# EAGLE library part 623334235321 (library Board_to_Board_Connectors_rev15d)
WR-PHD 1.27mm Dual SMT Socket Header H=2.20mm, Bottom Entry, 34 Pins=>Code : Con_BTB_SHD_1.27_2_623334235321 <http://katalog.we-online.de/media/thumbs2/eican/thb_Con_BTB_SHD_1.27_2_6233xx235321_pf2.jpg> Details see: http://katalog.we-online.de/en/em/623_3xx_235_321 Created 2014-06-04, Karrer Zheng 2014 (C) Würth Elektronik
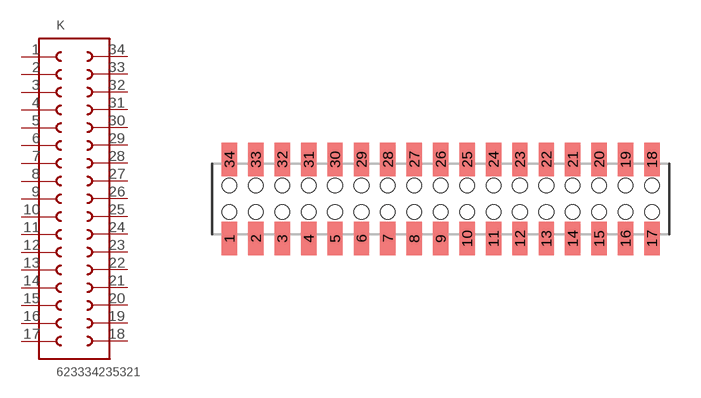
[diagram p318: symbol with the pads of 623334235321; footprint 623334235321]

Designator prefix K

## 623334235321  [623334235321]
1  1  pas
2  2  pas
3  3  pas
4  4  pas
5  5  pas
6  6  pas
7  7  pas
8  8  pas
9  9  pas
10  10  pas
11  11  pas
12  12  pas
13  13  pas
14  14  pas
15  15  pas
16  16  pas
17  17  pas
18  18  pas
19  19  pas
20  20  pas
21  21  pas
22  22  pas
23  23  pas
24  24  pas
25  25  pas
26  26  pas
27  27  pas
28  28  pas
29  29  pas
30  30  pas
31  31  pas
32  32  pas
33  33  pas
34  34  pas

## Footprint 623334235321 (pad centres in mm)
WR-PHD 1.27mm Dual SMT Socket Header H=2.20mm, Bottom Entry, 34 Pins
smd 0.74 x 1.6: 1 -10.16,-1.9; 2 -8.89,-1.9; 3 -7.62,-1.9; 4 -6.35,-1.9; 5 -5.08,-1.9; 6 -3.81,-1.9; 7 -2.54,-1.9; 8 -1.27,-1.9; 9 0,-1.9; 10 1.27,-1.9; 11 2.54,-1.9; 12 3.81,-1.9; 13 5.08,-1.9; 14 6.35,-1.9; 15 7.62,-1.9; 16 8.89,-1.9; 17 10.16,-1.9; 18 10.16,1.9; 19 8.89,1.9; 20 7.62,1.9; 21 6.35,1.9; 22 5.08,1.9; 23 3.81,1.9; 24 2.54,1.9; 25 1.27,1.9; 26 0,1.9; 27 -1.27,1.9; 28 -2.54,1.9; 29 -3.81,1.9; 30 -5.08,1.9; 31 -6.35,1.9; 32 -7.62,1.9; 33 -8.89,1.9; 34 -10.16,1.9
hole 0.7 at -10.16,0.635
hole 0.7 at -8.89,0.635
hole 0.7 at -7.62,0.635
hole 0.7 at -6.35,0.635
hole 0.7 at -5.08,0.635
hole 0.7 at -3.81,0.635
hole 0.7 at -2.54,0.635
hole 0.7 at -1.27,0.635
hole 0.7 at 0,0.635
hole 0.7 at 1.27,0.635
hole 0.7 at 2.54,0.635
hole 0.7 at 3.81,0.635
hole 0.7 at 5.08,0.635
hole 0.7 at 6.35,0.635
hole 0.7 at 7.62,0.635
hole 0.7 at 8.89,0.635
hole 0.7 at 10.16,0.635
hole 0.7 at -10.16,-0.635
hole 0.7 at -8.89,-0.635
hole 0.7 at -7.62,-0.635
hole 0.7 at -6.35,-0.635
hole 0.7 at -5.08,-0.635
hole 0.7 at -3.81,-0.635
hole 0.7 at -2.54,-0.635
hole 0.7 at -1.27,-0.635
hole 0.7 at 0,-0.635
hole 0.7 at 1.27,-0.635
hole 0.7 at 2.54,-0.635
hole 0.7 at 3.81,-0.635
hole 0.7 at 5.08,-0.635
hole 0.7 at 6.35,-0.635
hole 0.7 at 7.62,-0.635
hole 0.7 at 8.89,-0.635
hole 0.7 at 10.16,-0.635